# Altium schematic symbol library Capacitor.SchLib: 3 symbols
Pins are listed as number, name and electrical type; pins without a type are passive.

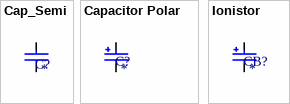
[diagram p0: symbols Cap_Semi to Ionistor]

## Cap_Semi
designator C?  (value not drawn)
Capacitor semi; Value: *
footprint C_0603 (Chip Capacitor; Body 1.6 x 0.8 mm (LxW typ))
footprint C_0805 (Capacitor Pattern)
footprint C_1206
footprint MPX_P5 (P=5mm, T=2.5mm, H=6.5mm, W=7.2mm)
footprint MPX_P7.5 (P=7.5mm, T=4mm, H=8mm, W=10mm)
footprint MPX_P10 (P=10mm, T=5mm, H=11mm, W=13mm)
footprint MPX_P15 (P=10mm, T=5mm, H=11mm, W=18mm)
footprint CDC_C5.8 (P=5.8mm, T=2mm, H=6mm)
footprint C_1210
footprint C_1505
footprint C_1510
footprint C_1805
footprint C_1808
footprint C_1812
footprint C_2010
footprint Y1-Y2 (Ceramic Capacitors Pin)
pins: 1, 2

## Capacitor Polar
designator C?
Capacitor polar; Value: *
footprint 4x5
footprint 5x11
footprint 6.3x11
footprint 8x11
footprint 10x16
footprint 12.5x20
footprint 13x20
footprint 16x25
footprint 18x16
footprint 18x35.5
footprint 22x35
footprint 25x40
footprint 30x36
footprint size A
footprint size B
footprint size C
footprint size D
footprint size E
footprint size F
footprint size G
footprint TANT_A
footprint TANT_B
footprint TANT_C
footprint TANT_D
footprint TANT_E
pins: 1, 2

## Ionistor
designator CB?  (value not drawn)
Value: *
footprint Ionistor_13mm
footprint Ionistor_20mm
footprint Ionistor_11,5mm
footprint Ionistor_11,5mm_SMD
pins: 1, 2